# Altium integrated library Infineon_Power_Smart_Low-Side_&_High-Side_Switches.IntLib: 238 symbols (part 9 of 14)
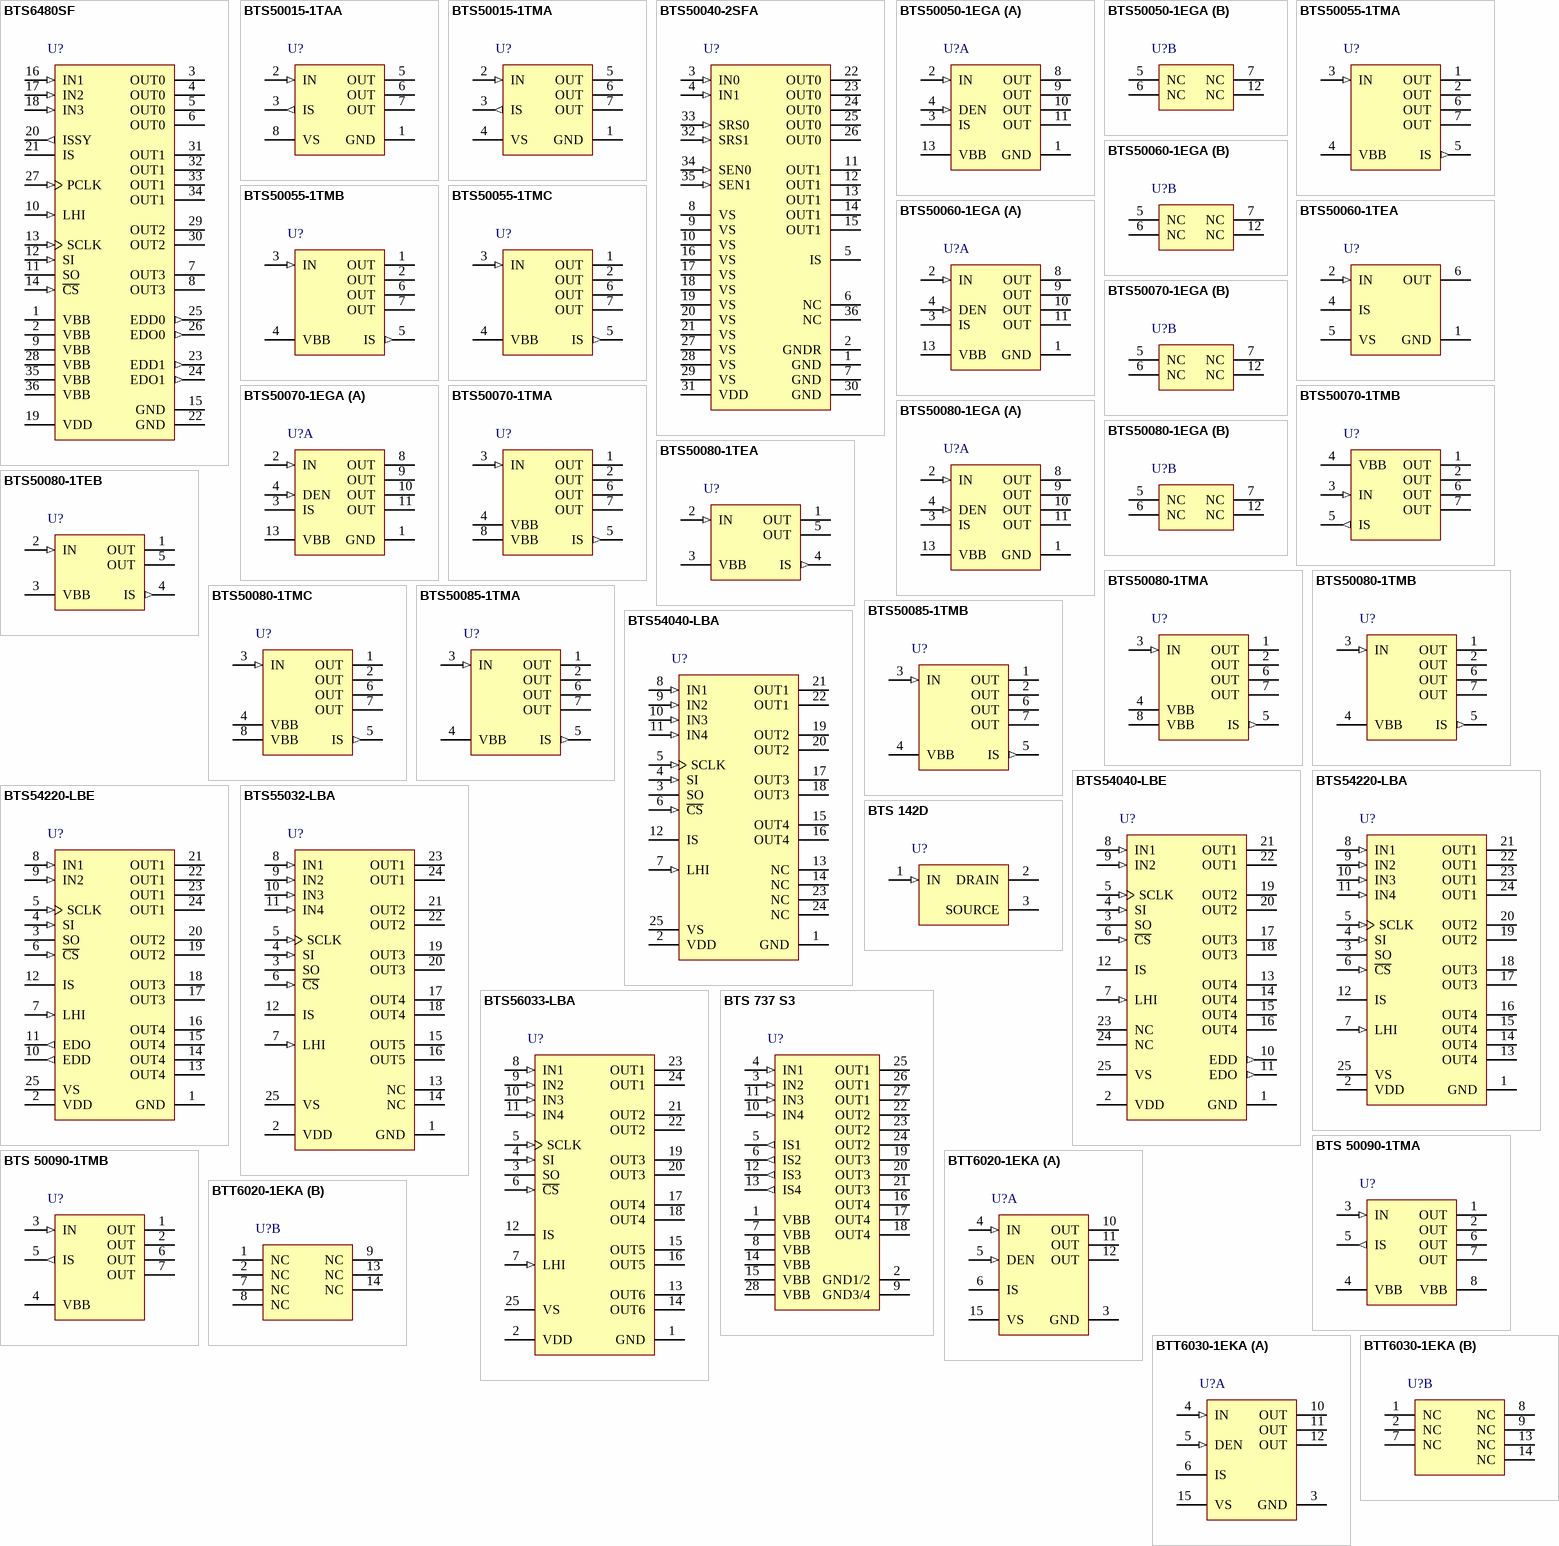
[diagram p15: symbols BTS6480SF to BTT6030-1EKA]

## BTS50085-1TMA
designator U?
Smart Highside High Current Power Switch, 1 Channel, 11.1 A Load Current, -40 to 150 degC, PG-TO220-7-4, Reel, Green; Manufacturer: Infineon; PartNumber: BTS50085-1TMA; Channels: 1; Green: TRUE; Group: Automotive Qualified; Load Current (typ): 11.1 A; Ptot (max): 170 W; Recommended Operating Voltage Max.: 58 V; Recommended Operating Voltage Min.: 5.5 V; RON @ 25degreesC: 9 mOhm; RON(max) @ 150degreesC: 17 mOhm; toff (max): 110 us; ton (max): 400 us; DatasheetVersion: Rev. 1.0; PackageVersion: Apr-10; PackageReference: PG-TO220-7-4; PackageDescription: 7-Pin Plastic (Green) Transistor Single Outline Package, 10 x 9.25 mm Body, 1.27 mm Pitch; Supplier 1: Mouser; Supplier Part Number 1: 726-BTS500851TMA; Supplier 2: Newark; Supplier Part Number 2: 47W3399; Supplier 3: Farnell; Supplier Part Number 3: 2215476; Supplier 4: Digi-Key; Supplier Part Number 4: BTS50085-1TMATR-ND; Supplier 5: Digi-Key; Supplier Part Number 5: BTS50085-1TMACT-ND; Supplier 6: Digi-Key; Supplier Part Number 6: BTS50085-1TMADKR-ND; Halogen-free: TRUE; Packing: Reel; Mounting Technology: Surface Mount; ComponentLink1Description: Manufacturer URL; ComponentLink1URL: http://www.infineon.com/; ComponentLink2Description: Datasheet; ComponentLink2URL: http://www.infineon.com/dgdl/BTS50085-1TMA_DS_v10.pdf?folderId=db3a304314dca389011537739e37155f&fileId=db3a3043183a955501186079aa3936b6&location=en.Products.Automotive_ICs.Smart_High-_and_Low-Side_Switches.PROFET__-_Smart_High_Side_Switches.DATASHEET.BTS50085-1TMA_DS_v10.pdf; ComponentLink3Description: Package Specification; ComponentLink3URL: http://www.infineon.com/dgdl/BTS50055-1TMA_DS_v11.pdf?folderId=db3a304314dca389011537739e37155f&fileId=db3a3043183a95550118607dca6c36c1&sId=db3a30433d68e984013d81e8892a7448
footprint INF-PG-TO220-7-4_N (DPAK, 7-Leads, Body 10x9.25mm, Pitch 1.27mm, IPC Medium Density)
footprint INF-PG-TO220-7-4_L (DPAK, 7-Leads, Body 10x9.25mm, Pitch 1.27mm, IPC High Density)
footprint INF-PG-TO220-7-4_M (DPAK, 7-Leads, Body 10x9.25mm, Pitch 1.27mm, IPC Low Density)
pins: 1 OUT (power) "Output to the load. The pins1,2,6 and 7 must be shorted with each other especially in high current applications!", 2 OUT (power) "Output to the load. The pins1,2,6 and 7 must be shorted with each other especially in high current applications!", 3 IN (in) "Input, activates the power switch in case of short to ground", 4 VBB (power) "Positive power supply voltage, the tab is electrically connected to this pin. In high current applications the tab should be used for the Vbb connection instead of this pin", 5 IS (out) "Diagnostic feedback providing a sense current proportional to the load current; zero current on failure (see Truth Table on page 7)", 6 OUT (power) "Output to the load. The pins1,2,6 and 7 must be shorted with each other especially in high current applications!", 7 OUT (power) "Output to the load. The pins1,2,6 and 7 must be shorted with each other especially in high current applications!"

## BTS50085-1TMB
designator U?
Smart Highside High Current Power Switch, 1 Channel, 44 A Load Current, -40 to 150 degC, PG-TO220-7-11, Tube, Green; Manufacturer: Infineon; PartNumber: BTS50085-1TMB; Channels: 1; Green: TRUE; Group: Automotive Qualified; Load Current (typ): 44 A; Packing: Reel; Ptot (max): 170 W; Recommended Operating Voltage Max.: 58 V; Recommended Operating Voltage Min.: 5 V; RON @ 25degreesC: 9 mOhm; RON(max) @ 150degreesC: 17 mOhm; toff (max): 110 us; ton (max): 400 us; DatasheetVersion: Rev. 1.0; PackageVersion: Jul-07; PackageReference: PG-TO220-7-11; PackageDescription: 7-Pin Plastic (Green) Transistor Single Outline Package, 10 x 9.25 mm Body, 1.27 mm Pitch; Supplier 1: Mouser; Supplier Part Number 1: 726-BTS500851TMB; Supplier 2: Newark; Supplier Part Number 2: 47W3400; Supplier 3: Farnell; Supplier Part Number 3: 2215515; Supplier 4: Digi-Key; Supplier Part Number 4: BTS50085-1TMB-ND; Halogen-free: TRUE; Mounting Technology: Through Hole; ComponentLink1Description: Manufacturer URL; ComponentLink1URL: http://www.infineon.com/; ComponentLink2Description: Datasheet; ComponentLink2URL: http://www.infineon.com/dgdl/BTS50085-1TMB_DS_v10.pdf?folderId=db3a304314dca389011537739e37155f&fileId=db3a3043183a95550118605d91523652&location=en.Products.Automotive_ICs.Smart_High-_and_Low-Side_Switches.PROFET__-_Smart_High_Side_Switches.DATASHEET.BTS50085-1TMB_DS_v10.pdf; ComponentLink3Description: Package Specification; ComponentLink3URL: http://www.infineon.com/dgdl/TLE5205-2_DS_11%5B1%5D.pdf?folderId=db3a30431b3e89eb011bb632994f065b&fileId=db3a30431f848401011fc747c7a0797f&sId=db3a30433d68e984013d7d43135b5b6a
footprint INF-PG-TO220-7-11 (FM, 7-Leads, Body 10x9.25mm, Pitch 1.27mm)
pins: 1 OUT (power) "Output to the load. The pins1,2,6 and 7 must be shorted with each other especially in high current applications!", 2 OUT (power) "Output to the load. The pins1,2,6 and 7 must be shorted with each other especially in high current applications!", 3 IN (in) "Input, activates the power switch in case of short to ground", 4 VBB (power) "Positive power supply voltage, the tab is electrically connected to this pin. In high current applications the tab should be used for the Vbb connection instead of this pin", 5 IS (out) "Diagnostic feedback providing a sense current proportional to the load current; zero current on failure (see Truth Table on page 7)", 6 OUT (power) "Output to the load. The pins1,2,6 and 7 must be shorted with each other especially in high current applications!", 7 OUT (power) "Output to the load. The pins1,2,6 and 7 must be shorted with each other especially in high current applications!"

## BTS54040-LBA
designator U?
SPI Power Controller, TSON-24, Reel, Green; Manufacturer: Infineon; PartNumber: BTS54040-LBA; Channel mix: 4*39mohm; Channels: 4; External drive capability: FLASE; Green: TRUE; DatasheetVersion: Rev. 1.0; PackageReference: TSON-24-3; PackageDescription: 24-Pin Plastic (Green) Thin Small Outline Non-Leaded Package, 9.5 x 6 mm Body, 0.65 mm Pitch; Halogen-free: TRUE; LED mode: TRUE; Packing: Reel; Mounting Technology: Surface Mount; ComponentLink1Description: Manufacturer URL; ComponentLink1URL: http://www.infineon.com/; ComponentLink2Description: Datasheet; ComponentLink2URL: http://www.infineon.com/dgdl/BTS54040LBA_DS10_2013-03-24.pdf?folderId=db3a30431400ef68011421b54e2e0564&fileId=db3a30433ea3aef6013ea72e84b304d2; ComponentLink3Description: Package Specification; ComponentLink3URL: http://www.infineon.com/dgdl/BTS56033LBA_DS10_2013-03-24.pdf?folderId=db3a30431400ef68011421b54e2e0564&fileId=db3a30433ea3aef6013ea7308c2a04d3
footprint INF-TSON-24-3_V (TSON, 24-Leads, Body 9.5x6mm, Pitch 0.65mm)
pins: 1 GND (power) "Ground connection", 2 VDD (power) "Logic supply (5 V)", 3 SO (hiz) "Serial output of SPI interface", 4 SI (in) "Serial input of SPI interface (“high” active)", 5 SCLK (in) "Serial clock of SPI interface (“high” active)", 6 ~{CS} (in) "Chip select of SPI interface (“low” active); Integrated pull up do VDD", 7 LHI (in) "Limp home activation signal ("high" active)", 8 IN1 (in) "Input signal of channel 1 ("high" active)", 9 IN2 (in) "Input signal of channel 2 ("high" active)", 10 IN3 (in) "Input signal of channel 3 ("high" active)", 11 IN4 (in) "Input signal of channel 4 ("high" active)", 12 IS (hiz) "Current sense output signal", 13 NC "Not connected, internally not bonded, shorted together", 14 NC "Not connected, internally not bonded, shorted together", 15 OUT4 (power) "Protected high-side power output of channel 4", 16 OUT4 (power) "Protected high-side power output of channel 4", 17 OUT3 (power) "Protected high-side power output of channel 3", 18 OUT3 (power) "Protected high-side power output of channel 3", 19 OUT2 (power) "Protected high-side power output of channel 2", 20 OUT2 (power) "Protected high-side power output of channel 2", 21 OUT1 (power) "Protected high-side power output of channel 1", 22 OUT1 (power) "Protected high-side power output of channel 1", 23 NC "Not connected, internally not bonded, shorted together", 24 NC "Not connected, internally not bonded, shorted together", 25 VS (power) "Positive power supply for high-side power switch"

## BTS54040-LBE
designator U?
SPI Power Controller, TSON-24, Reel, Green; Manufacturer: Infineon; PartNumber: BTS54040-LBE; Channel mix: 4*39mohm; Channels: 4; External drive capability: TRUE; DatasheetVersion: Rev. 1.0; PackageReference: TSON-24-3; PackageDescription: 24-Pin Plastic (Green) Thin Small Outline Non-Leaded Package, 9.5 x 6 mm Body, 0.65 mm Pitch; Green: TRUE; Halogen-free: TRUE; LED mode: TRUE; Packing: Reel; Mounting Technology: Surface Mount; ComponentLink1Description: Manufacturer URL; ComponentLink1URL: http://www.infineon.com/; ComponentLink2Description: Datasheet; ComponentLink2URL: http://www.infineon.com/dgdl/BTS54040LBE_DS10_2013-03-24.pdf?folderId=db3a30431400ef68011421b54e2e0564&fileId=db3a30433ea3aef6013ea731a44604d4; ComponentLink3Description: Package Specification; ComponentLink3URL: http://www.infineon.com/dgdl/BTS56033LBA_DS10_2013-03-24.pdf?folderId=db3a30431400ef68011421b54e2e0564&fileId=db3a30433ea3aef6013ea7308c2a04d3
footprint INF-TSON-24-3_V (TSON, 24-Leads, Body 9.5x6mm, Pitch 0.65mm)
pins: 1 GND (power) "Ground connection", 2 VDD (power) "Logic supply (5 V)", 3 SO (hiz) "Serial output of SPI interface", 4 SI (in) "Serial input of SPI interface (“high” active)", 5 SCLK (in) "Serial clock of SPI interface (“high” active)", 6 ~{CS} (in) "Chip select of SPI interface (“low” active); Integrated pull up do VDD", 7 LHI (in) "Limp home activation signal ("high" active)", 8 IN1 (in) "Input signal of channel 1 ("high" active)", 9 IN2 (in) "Input signal of channel 2 ("high" active)", 10 EDD (out) "External driver diagnosis enable signal for external driver", 11 EDO (out) "External driver output for activation for external driver", 12 IS (hiz) "Current sense output signal", 13 OUT4 (power) "Protected high-side power output of channel 4", 14 OUT4 (power) "Protected high-side power output of channel 4", 15 OUT4 (power) "Protected high-side power output of channel 4", 16 OUT4 (power) "Protected high-side power output of channel 4", 17 OUT3 (power) "Protected high-side power output of channel 3", 18 OUT3 (power) "Protected high-side power output of channel 3", 19 OUT2 (power) "Protected high-side power output of channel 2", 20 OUT2 (power) "Protected high-side power output of channel 2", 21 OUT1 (power) "Protected high-side power output of channel 1", 22 OUT1 (power) "Protected high-side power output of channel 1", 23 NC "Not connected, internally not bonded, shorted together", 24 NC "Not connected, internally not bonded, shorted together", 25 VS (power) "Positive power supply for high-side power switch"

## BTS54220-LBA
designator U?
SPI Power Controller, TSON-24, Reel, Green; Manufacturer: Infineon; PartNumber: BTS54220-LBA; Channel mix: 2*9mohm+2*27mohm; Channels: 4; External drive capability: FLASE; Green: TRUE; DatasheetVersion: Rev. 1.0; PackageReference: TSON-24-3; PackageDescription: 24-Pin Plastic (Green) Thin Small Outline Non-Leaded Package, 9.5 x 6 mm Body, 0.65 mm Pitch; Halogen-free: TRUE; LED mode: TRUE; Packing: Reel; Mounting Technology: Surface Mount; ComponentLink1Description: Manufacturer URL; ComponentLink1URL: http://www.infineon.com/; ComponentLink2Description: Datasheet; ComponentLink2URL: http://www.infineon.com/dgdl/BTS54220LBA_DS10_2013-03-24.pdf?folderId=db3a30431400ef68011421b54e2e0564&fileId=db3a30433ea3aef6013ea72d251504d1; ComponentLink3Description: Package Specification; ComponentLink3URL: http://www.infineon.com/dgdl/BTS56033LBA_DS10_2013-03-24.pdf?folderId=db3a30431400ef68011421b54e2e0564&fileId=db3a30433ea3aef6013ea7308c2a04d3
footprint INF-TSON-24-3_V (TSON, 24-Leads, Body 9.5x6mm, Pitch 0.65mm)
pins: 1 GND (power) "Ground connection", 2 VDD (power) "Logic supply (5 V)", 3 SO (hiz) "Serial output of SPI interface", 4 SI (in) "Serial input of SPI interface (“high” active)", 5 SCLK (in) "Serial clock of SPI interface (“high” active)", 6 ~{CS} (in) "Chip select of SPI interface (“low” active); Integrated pull up do VDD", 7 LHI (in) "Limp home activation signal ("high" active)", 8 IN1 (in) "Input signal of channel 1 ("high" active)", 9 IN2 (in) "Input signal of channel 2 ("high" active)", 10 IN3 (in) "Input signal of channel 3 ("high" active)", 11 IN4 (in) "Input signal of channel 4 ("high" active)", 12 IS (hiz) "Current sense output signal", 13 OUT4 (power) "Protected high-side power output of channel 4", 14 OUT4 (power) "Protected high-side power output of channel 4", 15 OUT4 (power) "Protected high-side power output of channel 4", 16 OUT4 (power) "Protected high-side power output of channel 4", 17 OUT3 (power) "Protected high-side power output of channel 3", 18 OUT3 (power) "Protected high-side power output of channel 3", 19 OUT2 (power) "Protected high-side power output of channel 2", 20 OUT2 (power) "Protected high-side power output of channel 2", 21 OUT1 (power) "Protected high-side power output of channel 1", 22 OUT1 (power) "Protected high-side power output of channel 1", 23 OUT1 (power) "Protected high-side power output of channel 1", 24 OUT1 (power) "Protected high-side power output of channel 1", 25 VS (power) "Positive power supply for high-side power switch"

## BTS54220-LBE
designator U?
SPI Power Controller, TSON-24, Reel, Green; Manufacturer: Infineon; PartNumber: BTS54220-LBE; Channel mix: 2*9mohm+2*27mohm; Channels: 4; External drive capability: TRUE; DatasheetVersion: Rev. 1.0; PackageReference: TSON-24-3; PackageDescription: 24-Pin Plastic (Green) Thin Small Outline Non-Leaded Package, 9.5 x 6 mm Body, 0.65 mm Pitch; Green: TRUE; Halogen-free: TRUE; LED mode: TRUE; Packing: Reel; Mounting Technology: Surface Mount; ComponentLink1Description: Manufacturer URL; ComponentLink1URL: http://www.infineon.com/; ComponentLink2Description: Datasheet; ComponentLink2URL: http://www.infineon.com/dgdl/BTS54220LBE_DS10_2013-03-24.pdf?folderId=db3a30431400ef68011421b54e2e0564&fileId=db3a30433ea3aef6013ea72a0a5304ca; ComponentLink3Description: Package Specification; ComponentLink3URL: http://www.infineon.com/dgdl/BTS56033LBA_DS10_2013-03-24.pdf?folderId=db3a30431400ef68011421b54e2e0564&fileId=db3a30433ea3aef6013ea7308c2a04d3
footprint INF-TSON-24-3_V (TSON, 24-Leads, Body 9.5x6mm, Pitch 0.65mm)
pins: 1 GND (power) "Ground connection", 2 VDD (power) "Logic supply (5 V)", 3 SO (hiz) "Serial output of SPI interface", 4 SI (in) "Serial input of SPI interface (“high” active)", 5 SCLK (in) "Serial clock of SPI interface (“high” active)", 6 ~{CS} (in) "Chip select of SPI interface (“low” active); Integrated pull up do VDD", 7 LHI (in) "Limp home activation signal ("high" active)", 8 IN1 (in) "Input signal of channel 1 ("high" active)", 9 IN2 (in) "Input signal of channel 2 ("high" active)", 10 EDD (out) "External driver diagnosis enable signal for external driver", 11 EDO (out) "External driver output for activation for external driver", 12 IS (hiz) "Current sense output signal", 13 OUT4 (power) "Protected high-side power output of channel 4", 14 OUT4 (power) "Protected high-side power output of channel 4", 15 OUT4 (power) "Protected high-side power output of channel 4", 16 OUT4 (power) "Protected high-side power output of channel 4", 17 OUT3 (power) "Protected high-side power output of channel 3", 18 OUT3 (power) "Protected high-side power output of channel 3", 19 OUT2 (power) "Protected high-side power output of channel 2", 20 OUT2 (power) "Protected high-side power output of channel 2", 21 OUT1 (power) "Protected high-side power output of channel 1", 22 OUT1 (power) "Protected high-side power output of channel 1", 23 OUT1 (power) "Protected high-side power output of channel 1", 24 OUT1 (power) "Protected high-side power output of channel 1", 25 VS (power) "Positive power supply for high-side power switch"

## BTS55032-LBA
designator U?
SPI Power Controller, TSON-24, Reel, Green; Manufacturer: Infineon; PartNumber: BTS55032-LBA; Channel mix: 3*39mohm+2*110mohm; Channels: 5; External drive capability: FLASE; Green: TRUE; DatasheetVersion: Rev. 1.0; PackageReference: TSON-24-3; PackageDescription: 24-Pin Plastic (Green) Thin Small Outline Non-Leaded Package, 9.5 x 6 mm Body, 0.65 mm Pitch; Halogen-free: TRUE; LED mode: TRUE; Packing: Reel; Mounting Technology: Surface Mount; ComponentLink1Description: Manufacturer URL; ComponentLink1URL: http://www.infineon.com/; ComponentLink2Description: Datasheet; ComponentLink2URL: http://www.infineon.com/dgdl/BTS55032LBA_DS10_2013-03-24.pdf?folderId=db3a30431400ef68011421b54e2e0564&fileId=db3a30433ea3aef6013ea72b97ca04cb; ComponentLink3Description: Package Specification; ComponentLink3URL: http://www.infineon.com/dgdl/BTS56033LBA_DS10_2013-03-24.pdf?folderId=db3a30431400ef68011421b54e2e0564&fileId=db3a30433ea3aef6013ea7308c2a04d3
footprint INF-TSON-24-3_V (TSON, 24-Leads, Body 9.5x6mm, Pitch 0.65mm)
pins: 1 GND (power) "Ground connection", 2 VDD (power) "Logic supply (5 V)", 3 SO (hiz) "Serial output of SPI interface", 4 SI (in) "Serial input of SPI interface (“high” active)", 5 SCLK (in) "Serial clock of SPI interface (“high” active)", 6 ~{CS} (in) "Chip select of SPI interface (“low” active); Integrated pull up do VDD", 7 LHI (in) "Limp home activation signal ("high" active)", 8 IN1 (in) "Input signal of channel 1 ("high" active)", 9 IN2 (in) "Input signal of channel 2 ("high" active)", 10 IN3 (in) "Input signal of channel 3 ("high" active)", 11 IN4 (in) "Input signal of channel 4 ("high" active)", 12 IS (hiz) "Current sense output signal", 13 NC "Not connected, internally not bonded, shorted together", 14 NC "Not connected, internally not bonded, shorted together", 15 OUT5 (power) "Protected high-side power output of channel 5", 16 OUT5 (power) "Protected high-side power output of channel 5", 17 OUT4 (power) "Protected high-side power output of channel 4", 18 OUT4 (power) "Protected high-side power output of channel 4", 19 OUT3 (power) "Protected high-side power output of channel 3", 20 OUT3 (power) "Protected high-side power output of channel 3", 21 OUT2 (power) "Protected high-side power output of channel 2", 22 OUT2 (power) "Protected high-side power output of channel 2", 23 OUT1 (power) "Protected high-side power output of channel 1", 24 OUT1 (power) "Protected high-side power output of channel 1", 25 VS (power) "Positive power supply for high-side power switch"

## BTS56033-LBA
designator U?
SPI Power Controller, TSON-24, Reel, Green; Manufacturer: Infineon; PartNumber: BTS56033-LBA; Channel mix: 3*39mohm+3*110mohm; Channels: 6; External drive capability: FLASE; Green: TRUE; DatasheetVersion: Rev. 1.0; PackageReference: TSON-24-3; PackageDescription: 24-Pin Plastic (Green) Thin Small Outline Non-Leaded Package, 9.5 x 6 mm Body, 0.65 mm Pitch; Halogen-free: TRUE; LED mode: TRUE; Packing: Reel; Mounting Technology: Surface Mount; ComponentLink1Description: Manufacturer URL; ComponentLink1URL: http://www.infineon.com/; ComponentLink2Description: Datasheet; ComponentLink2URL: http://www.infineon.com/dgdl/BTS56033LBA_DS10_2013-03-24.pdf?folderId=db3a30431400ef68011421b54e2e0564&fileId=db3a30433ea3aef6013ea7308c2a04d3; ComponentLink3Description: Package Specification; ComponentLink3URL: http://www.infineon.com/dgdl/BTS56033LBA_DS10_2013-03-24.pdf?folderId=db3a30431400ef68011421b54e2e0564&fileId=db3a30433ea3aef6013ea7308c2a04d3
footprint INF-TSON-24-3_V (TSON, 24-Leads, Body 9.5x6mm, Pitch 0.65mm)
pins: 1 GND (power) "Ground connection", 2 VDD (power) "Logic supply (5 V)", 3 SO (hiz) "Serial output of SPI interface", 4 SI (in) "Serial input of SPI interface (“high” active)", 5 SCLK (in) "Serial clock of SPI interface (“high” active)", 6 ~{CS} (in) "Chip select of SPI interface (“low” active); Integrated pull up do VDD", 7 LHI (in) "Limp home activation signal ("high" active)", 8 IN1 (in) "Input signal of channel 1 ("high" active)", 9 IN2 (in) "Input signal of channel 2 ("high" active)", 10 IN3 (in) "Input signal of channel 3 ("high" active)", 11 IN4 (in) "Input signal of channel 4 ("high" active)", 12 IS (hiz) "Current sense output signal", 13 OUT6 (power) "Protected high-side power output of channel 6", 14 OUT6 (power) "Protected high-side power output of channel 6", 15 OUT5 (power) "Protected high-side power output of channel 5", 16 OUT5 (power) "Protected high-side power output of channel 5", 17 OUT4 (power) "Protected high-side power output of channel 4", 18 OUT4 (power) "Protected high-side power output of channel 4", 19 OUT3 (power) "Protected high-side power output of channel 3", 20 OUT3 (power) "Protected high-side power output of channel 3", 21 OUT2 (power) "Protected high-side power output of channel 2", 22 OUT2 (power) "Protected high-side power output of channel 2", 23 OUT1 (power) "Protected high-side power output of channel 1", 24 OUT1 (power) "Protected high-side power output of channel 1", 25 VS (power) "Positive power supply for high-side power switch"

## BTS 142D
designator U?
Smart Low-Side Power Switch Power HITFET, 42 V VDS, 4.6 A ID, -40 to 150 degC, PG-TO252-3-11, Reel, Green; Manufacturer: Infineon; PartNumber: BTS 142D; Channels: 1; Green: TRUE; ID: 4.6 A; ID(lim) (min): 30 A; Ptot (max): 59 W; RDS (on)(max): 30 mOhm; ton (max): 100 us; toff (max): 170 us; VDS (max): 42 V; DatasheetVersion: Rev. 1.3; PackageVersion: Dec-06; PackageReference: PG-TO252-3-11; PackageDescription: 3-Pin Plastic (Green) Transistor Single Outline Package, 6.5 x 6.12 mm Body, 2.28 mm Pitch; Group: HITFET; Halogen-free: FALSE; ID(nom): 4.6 A; Packing: Reel; Mounting Technology: Surface Mount; ComponentLink1Description: Manufacturer URL; ComponentLink1URL: http://www.infineon.com/; ComponentLink2Description: Datasheet; ComponentLink2URL: http://www.infineon.com/dgdl/BTS142_DS_13.pdf?folderId=db3a3043163797a6011667aa084c0e01&fileId=db3a3043163797a6011667ac98be0e02&location=en.Products.Automotive_ICs.Smart_High-_and_Low-Side_Switches.HITFET___TEMPFET__-_Smart_Low-Side_Switches.DATASHEET.BTS142_DS_13.pdf; ComponentLink3Description: Package Specification; ComponentLink3URL: http://www.infineon.com/dgdl/BTS142_DS_13.pdf?folderId=db3a3043163797a6011667aa084c0e01&fileId=db3a3043163797a6011667ac98be0e02&location=en.Products.Automotive_ICs.Smart_High-_and_Low-Side_Switches.HITFET___TEMPFET__-_Smart_Low-Side_Switches.DATASHEET.BTS142_DS_13.pdf
footprint INF-PG-TO252-3-11_N (DPAK, 3-Leads, Body 6.5x6.12mm, Pitch 2.28mm, IPC Medium Density)
footprint INF-PG-TO252-3-11_L (DPAK, 3-Leads, Body 6.5x6.12mm, Pitch 2.28mm, IPC High Density)
footprint INF-PG-TO252-3-11_M (DPAK, 3-Leads, Body 6.5x6.12mm, Pitch 2.28mm, IPC Low Density)
pins: 1 IN (in), 2 DRAIN (power), 3 SOURCE (power)

## BTS 737 S3
designator U?
Smart High-Side Power Switch, 4 Channels, 5.4 A Load Current, -40 to 150 degC, P-DSO-28-16, Reel; Manufacturer: Infineon; PartNumber: BTS 737 S3; Channels: 4; Green: FALSE; Group: Automotive Qualified; Load Current (typ): 5.4 A; Ptot (max): 3.7 W; Recommended Operating Voltage Max.: 40 V; Recommended Operating Voltage Min.: 5 V; RON @ 25degreesC: 35 mOhm; RON(max) @ 150degreesC: 70 mOhm; toff (max): 250 us; ton (max): 150 us; PackageVersion: Feb-04; PackageReference: P-DSO-28-16; PackageDescription: 28-Pin Plastic Dual Small Outline Package, 17.9 x 7.5 mm Body, 1.27 mm Pitch; Halogen-free: FALSE; Packing: Reel; Mounting Technology: Surface Mount; ComponentLink1Description: Manufacturer URL; ComponentLink1URL: http://www.infineon.com/; ComponentLink2Description: Datasheet; ComponentLink2URL: http://www.infineon.com/dgdl/BTS737S3_20040219.pdf?folderId=db3a304412b407950112b428d0c13e86&fileId=db3a304412b407950112b428d12c3e87&location=en.Products.Automotive_ICs.Smart_High-_and_Low-Side_Switches.PROFET__-_Smart_High_Side_Switches.DATASHEET.BTS737S3_20040219.pdf; ComponentLink3Description: Package Specification; ComponentLink3URL: http://www.infineon.com/dgdl/BTS737S3_20040219.pdf?folderId=db3a304412b407950112b428d0c13e86&fileId=db3a304412b407950112b428d12c3e87&sId=db3a30433d68e984013d857a17970df6
footprint INF-P-DSO-28-16_N (SOP, 28-Leads, Body 17.9x7.5mm, Pitch 1.27mm, IPC Medium Density)
footprint INF-P-DSO-28-16_L (SOP, 28-Leads, Body 17.9x7.5mm, Pitch 1.27mm, IPC High Density)
footprint INF-P-DSO-28-16_M (SOP, 28-Leads, Body 17.9x7.5mm, Pitch 1.27mm, IPC Low Density)
pins: 1 VBB (power) "Positive power supply voltage. Design the wiring for the simultaneous max. short circuit currents from channel 1 to 4 and also for low thermal resistance", 2 GND1/2 (power) "Ground of chip 1 (channel 1,2)", 3 IN2 (in) "Input 1,2, 3,4 activates channel 1,2,3,4 in case of logic high signal", 4 IN1 (in) "Input 1,2, 3,4 activates channel 1,2,3,4 in case of logic high signal", 5 IS1 (out) "Diagnostic feedback 1 .. 4 of channel 1 to 4 Providing a sense current, proportional to the load current", 6 IS2 (out) "Diagnostic feedback 1 .. 4 of channel 1 to 4 Providing a sense current, proportional to the load current", 7 VBB (power) "Positive power supply voltage. Design the wiring for the simultaneous max. short circuit currents from channel 1 to 4 and also for low thermal resistance", 8 VBB (power) "Positive power supply voltage. Design the wiring for the simultaneous max. short circuit currents from channel 1 to 4 and also for low thermal resistance", 9 GND3/4 (power) "Ground of chip 2 (channel 3,4)", 10 IN4 (in) "Input 1,2, 3,4 activates channel 1,2,3,4 in case of logic high signal", 11 IN3 (in) "Input 1,2, 3,4 activates channel 1,2,3,4 in case of logic high signal", 12 IS3 (out) "Diagnostic feedback 1 .. 4 of channel 1 to 4 Providing a sense current, proportional to the load current", 13 IS4 (out) "Diagnostic feedback 1 .. 4 of channel 1 to 4 Providing a sense current, proportional to the load current", 14 VBB (power) "Positive power supply voltage. Design the wiring for the simultaneous max. short circuit currents from channel 1 to 4 and also for low thermal resistance", 15 VBB (power) "Positive power supply voltage. Design the wiring for the simultaneous max. short circuit currents from channel 1 to 4 and also for low thermal resistance", 16 OUT4 (power) "Output 1,2,3,4 protected high-side power output of channel 1,23,4. Design the wiring for the max. short circuit current", 17 OUT4 (power) "Output 1,2,3,4 protected high-side power output of channel 1,23,4. Design the wiring for the max. short circuit current", 18 OUT4 (power) "Output 1,2,3,4 protected high-side power output of channel 1,23,4. Design the wiring for the max. short circuit current", 19 OUT3 (power) "Output 1,2,3,4 protected high-side power output of channel 1,23,4. Design the wiring for the max. short circuit current", 20 OUT3 (power) "Output 1,2,3,4 protected high-side power output of channel 1,23,4. Design the wiring for the max. short circuit current", 21 OUT3 (power) "Output 1,2,3,4 protected high-side power output of channel 1,23,4. Design the wiring for the max. short circuit current", 22 OUT2 (power) "Output 1,2,3,4 protected high-side power output of channel 1,23,4. Design the wiring for the max. short circuit current", 23 OUT2 (power) "Output 1,2,3,4 protected high-side power output of channel 1,23,4. Design the wiring for the max. short circuit current", 24 OUT2 (power) "Output 1,2,3,4 protected high-side power output of channel 1,23,4. Design the wiring for the max. short circuit current", 25 OUT1 (power) "Output 1,2,3,4 protected high-side power output of channel 1,23,4. Design the wiring for the max. short circuit current", 26 OUT1 (power) "Output 1,2,3,4 protected high-side power output of channel 1,23,4. Design the wiring for the max. short circuit current", 27 OUT1 (power) "Output 1,2,3,4 protected high-side power output of channel 1,23,4. Design the wiring for the max. short circuit current", 28 VBB (power) "Positive power supply voltage. Design the wiring for the simultaneous max. short circuit currents from channel 1 to 4 and also for low thermal resistance"

## BTS 50090-1TMA
designator U?
Smart High-Side Power Switch PROFET One Channel, -40 to 150 degC, PG-TO220-7-4, Reel, Green; Manufacturer: Infineon; PartNumber: BTS 50090-1TMA; Green: TRUE; DatasheetVersion: Rev. 1.0; PackageVersion: Apr-10; PackageReference: PG-TO220-7-4; PackageDescription: 7-Pin Plastic (Green) Transistor Single Outline Package, 10 x 9.25 mm Body, 1.27 mm Pitch; Halogen-free: FALSE; Packing: Reel; Mounting Technology: Surface Mount; ComponentLink1Description: Manufacturer URL; ComponentLink1URL: http://www.infineon.com/; ComponentLink2Description: Datasheet; ComponentLink2URL: http://www.infineon.com/dgdl/BTS50090-1TMA_DS_v10.pdf?folderId=db3a304314dca389011537739e37155f&fileId=db3a30431be39b97011c1da5653377cf&location=en.Products.Automotive_ICs.Smart_High-_and_Low-Side_Switches.PROFET__-_Smart_High_Side_Switches.DATASHEET.BTS50090-1TMA_DS_v10.pdf; ComponentLink3Description: Package Specification; ComponentLink3URL: http://www.infineon.com/dgdl/BTS50055-1TMA_DS_v11.pdf?folderId=db3a304314dca389011537739e37155f&fileId=db3a3043183a95550118607dca6c36c1&sId=db3a30433d68e984013d81e8892a7448
footprint INF-PG-TO220-7-4_N (DPAK, 7-Leads, Body 10x9.25mm, Pitch 1.27mm, IPC Medium Density)
footprint INF-PG-TO220-7-4_L (DPAK, 7-Leads, Body 10x9.25mm, Pitch 1.27mm, IPC High Density)
footprint INF-PG-TO220-7-4_M (DPAK, 7-Leads, Body 10x9.25mm, Pitch 1.27mm, IPC Low Density)
pins: 1 OUT (power) "Output; output to the load; pin 1, 2, 6 and 7 must be externally shorted.", 2 OUT (power) "Output; output to the load; pin 1, 2, 6 and 7 must be externally shorted.", 3 IN (in) "Input; activates the power switch if shorted to ground.", 4 VBB (power) "Supply Voltage; positive power supply voltage; tab and pin 4 are internally shorted.", 5 IS (out) "Sense Output; Diagnostic feedback; provides at normal operation a sense current proportional to the load current; in case of overload, overtemperature and/or short circuit a defined current is provided", 6 OUT (power) "Output; output to the load; pin 1, 2, 6 and 7 must be externally shorted.", 7 OUT (power) "Output; output to the load; pin 1, 2, 6 and 7 must be externally shorted.", 8 VBB (power) "Supply Voltage; positive power supply voltage; tab and pin 4 are internally shorted."

## BTS 50090-1TMB
designator U?
Smart High-Side Power Switch PROFET One Channel, -40 to 150 degC, PG-TO220-7-12, Tube, Green; Manufacturer: Infineon; PartNumber: BTS 50090-1TMB; Green: TRUE; DatasheetVersion: Rev. 1.0; PackageVersion: Jul-07; PackageReference: PG-TO220-7-12; PackageDescription: 7-Pin Plastic (Green) Transistor Single Outline Package, 10 x 9.25 mm Body, 1.27 mm Pitch; Halogen-free: FALSE; Packing: Tube; Mounting Technology: Through Hole; ComponentLink1Description: Manufacturer URL; ComponentLink1URL: http://www.infineon.com/; ComponentLink2Description: Datasheet; ComponentLink2URL: http://www.infineon.com/dgdl/BTS50090-1TMB_DS_v10.pdf?folderId=db3a304314dca389011537739e37155f&fileId=db3a30431be39b97011c1da8909077e2&location=en.Products.Automotive_ICs.Smart_High-_and_Low-Side_Switches.PROFET__-_Smart_High_Side_Switches.DATASHEET.BTS50090-1TMB_DS_v10.pdf; ComponentLink3Description: Package Specification; ComponentLink3URL: http://www.infineon.com/dgdl/TLE5205-2_DS_11%5B1%5D.pdf?folderId=db3a30431b3e89eb011bb632994f065b&fileId=db3a30431f848401011fc747c7a0797f&sId=db3a30433d68e984013d7d43135b5b6a
footprint INF-PG-TO220-7-12 (FM, 7-Leads, Body 10x4.4mm, Pitch 1.27mm)
pins: 1 OUT (power) "Output; output to the load; pin 1, 2, 6 and 7 must be externally shorted.", 2 OUT (power) "Output; output to the load; pin 1, 2, 6 and 7 must be externally shorted.", 3 IN (in) "Input; activates the power switch if shorted to ground.", 4 VBB (power) "Supply Voltage; positive power supply voltage; tab and pin 4 are internally shorted.", 5 IS (out) "Sense Output; Diagnostic feedback; provides at normal operation a sense current proportional to the load current; in case of overload, overtemperature and/or short circuit a defined current is provided", 6 OUT (power) "Output; output to the load; pin 1, 2, 6 and 7 must be externally shorted.", 7 OUT (power) "Output; output to the load; pin 1, 2, 6 and 7 must be externally shorted."

## BTT6020-1EKA
designator U?
Smart High-Side Power Switch, 5 V to 36 V, -40 to 150 degC, PG-DSO-14, Reel, Green; Manufacturer: Infineon; PartNumber: BTT6020-1EKA; Channels: 1; Diagnostic: Sense; Green: TRUE; IL (nom)min - all channels active: 7 A; IL (SCp): 70 A; Ptot (max): 1.6 W; Recommended Operating Voltage Max.: 36 V; Recommended Operating Voltage Min.: 5 V; toff (max): 150 us; DatasheetVersion: Rev. 1.0; PackageVersion: Apr-12; PackageReference: PG-DSO-14-47 EP; PackageDescription: 14-Pin Plastic (Green) Dual Small Outline Package, 8.65 x 3.9 mm Body, 1.27 mm Pitch; Supplier 1: Mouser; Supplier Part Number 1: N/A; Halogen-free: TRUE; IL (nom)min - one channel active: 7 A; IL(SC): 70 A; Load Current (typ): 7 A; Mounting: SMD; Packing: Reel; ton (max): 150 us; Mounting Technology: Surface Mount; Code_JEDEC: MS-012; ComponentLink1Description: Manufacturer URL; ComponentLink1URL: http://www.infineon.com/; ComponentLink2Description: Datasheet; ComponentLink2URL: http://www.infineon.com/dgdl/BTT6020-1EKA-Datasheet-10-Infineon.pdf?folderId=db3a304317a748360117eee5521349bb&fileId=db3a3043405f29780140626558a02806; ComponentLink3Description: Package Specification; ComponentLink3URL: http://www.infineon.com/cms/packages/SMD_-_Surface_Mounted_Devices/P-PG-DSO/P-PG-DSO-14-33x_-40x_-43.html?__locale=en
footprint INF-PG-DSO-14-47 EP_N (SOP, 14-Leads, Body 8.65x3.9mm, Pitch 1.27mm, Thermal Pad 6.5x2.75mm, IPC Medium Density)
footprint INF-PG-DSO-14-47 EP_L (SOP, 14-Leads, Body 8.65x3.9mm, Pitch 1.27mm, Thermal Pad 6.5x2.75mm, IPC High Density)
footprint INF-PG-DSO-14-47 EP_M (SOP, 14-Leads, Body 8.65x3.9mm, Pitch 1.27mm, Thermal Pad 6.5x2.75mm, IPC Low Density)
part A pins: 3 GND (power) "GrouND; Ground connection", 4 IN (in) "INput channel; Input signal for channel activation", 5 DEN (in) "Diagnostic ENable; Digital signal to enable/disable the diagnosis of the device", 6 IS (hiz) "Sense; Sense current of the selected channel", 10 OUT (power) "OUTput; Protected high side power output channel", 11 OUT (power) "OUTput; Protected high side power output channel", 12 OUT (power) "OUTput; Protected high side power output channel", 15 VS (power) "Voltage Supply; Battery voltage"
part B pins: 1 NC "Not Connected; No internal connection to the chip", 2 NC "Not Connected; No internal connection to the chip", 7 NC "Not Connected; No internal connection to the chip", 8 NC "Not Connected; No internal connection to the chip", 9 NC "Not Connected; No internal connection to the chip", 13 NC "Not Connected; No internal connection to the chip", 14 NC "Not Connected; No internal connection to the chip"

## BTT6030-1EKA
designator U?
Smart High-Side Power Switch, 5 to 36 V, -40 to 150 degC, PG-DSO-14, Reel, Green; Manufacturer: Infineon; PartNumber: BTT6030-1EKA; Channels: 1; Diagnostic: Sense; Green: TRUE; IL (nom)min - all channels active: 6 A; IL (SCp): 60 A; Ptot (max): 1.6 W; Recommended Operating Voltage Max.: 36 V; Recommended Operating Voltage Min.: 5 V; toff (max): 150 us; DatasheetVersion: Rev. 1.0; PackageVersion: Apr-12; PackageReference: PG-DSO-14-47 EP; PackageDescription: 14-Pin Plastic (Green) Dual Small Outline Package, 8.65 x 3.9 mm Body, 1.27 mm Pitch; Supplier 1: Mouser; Supplier Part Number 1: N/A; Halogen-free: TRUE; IL (nom)min - one channel active: 6 A; IL(SC): 60 A; Load Current (typ): 6 A; Mounting: SMD; Packing: Reel; ton (max): 150 us; Mounting Technology: Surface Mount; Code_JEDEC: MS-012; ComponentLink1Description: Manufacturer URL; ComponentLink1URL: http://www.infineon.com/; ComponentLink2Description: Datasheet; ComponentLink2URL: http://www.infineon.com/dgdl/BTT6030-1EKA-Datasheet-10-Infineon.pdf?folderId=db3a304317a748360117eee5521349bb&fileId=db3a3043405f297801406268c1ac2807; ComponentLink3Description: Package Specification; ComponentLink3URL: http://www.infineon.com/cms/packages/SMD_-_Surface_Mounted_Devices/P-PG-DSO/P-PG-DSO-14-33x_-40x_-43.html?__locale=en
footprint INF-PG-DSO-14-47 EP_N (SOP, 14-Leads, Body 8.65x3.9mm, Pitch 1.27mm, Thermal Pad 6.5x2.75mm, IPC Medium Density)
footprint INF-PG-DSO-14-47 EP_L (SOP, 14-Leads, Body 8.65x3.9mm, Pitch 1.27mm, Thermal Pad 6.5x2.75mm, IPC High Density)
footprint INF-PG-DSO-14-47 EP_M (SOP, 14-Leads, Body 8.65x3.9mm, Pitch 1.27mm, Thermal Pad 6.5x2.75mm, IPC Low Density)
part A pins: 3 GND (power) "GrounD; Ground connection", 4 IN (in) "INput channel; Input signal for channel activation", 5 DEN (in) "Diagnostic ENable; Digital signal to enable/disable the diagnosis of the device", 6 IS (hiz) "Sense; Sense current of the selected channel", 10 OUT (power) "OUTput; Protected high side power output channel", 11 OUT (power) "OUTput; Protected high side power output channel", 12 OUT (power) "OUTput; Protected high side power output channel", 15 VS (power) "Voltage Supply; Battery voltage"
part B pins: 1 NC "Not Connected; No internal connection to the chip", 2 NC "Not Connected; No internal connection to the chip", 7 NC "Not Connected; No internal connection to the chip", 8 NC "Not Connected; No internal connection to the chip", 9 NC "Not Connected; No internal connection to the chip", 13 NC "Not Connected; No internal connection to the chip", 14 NC "Not Connected; No internal connection to the chip"

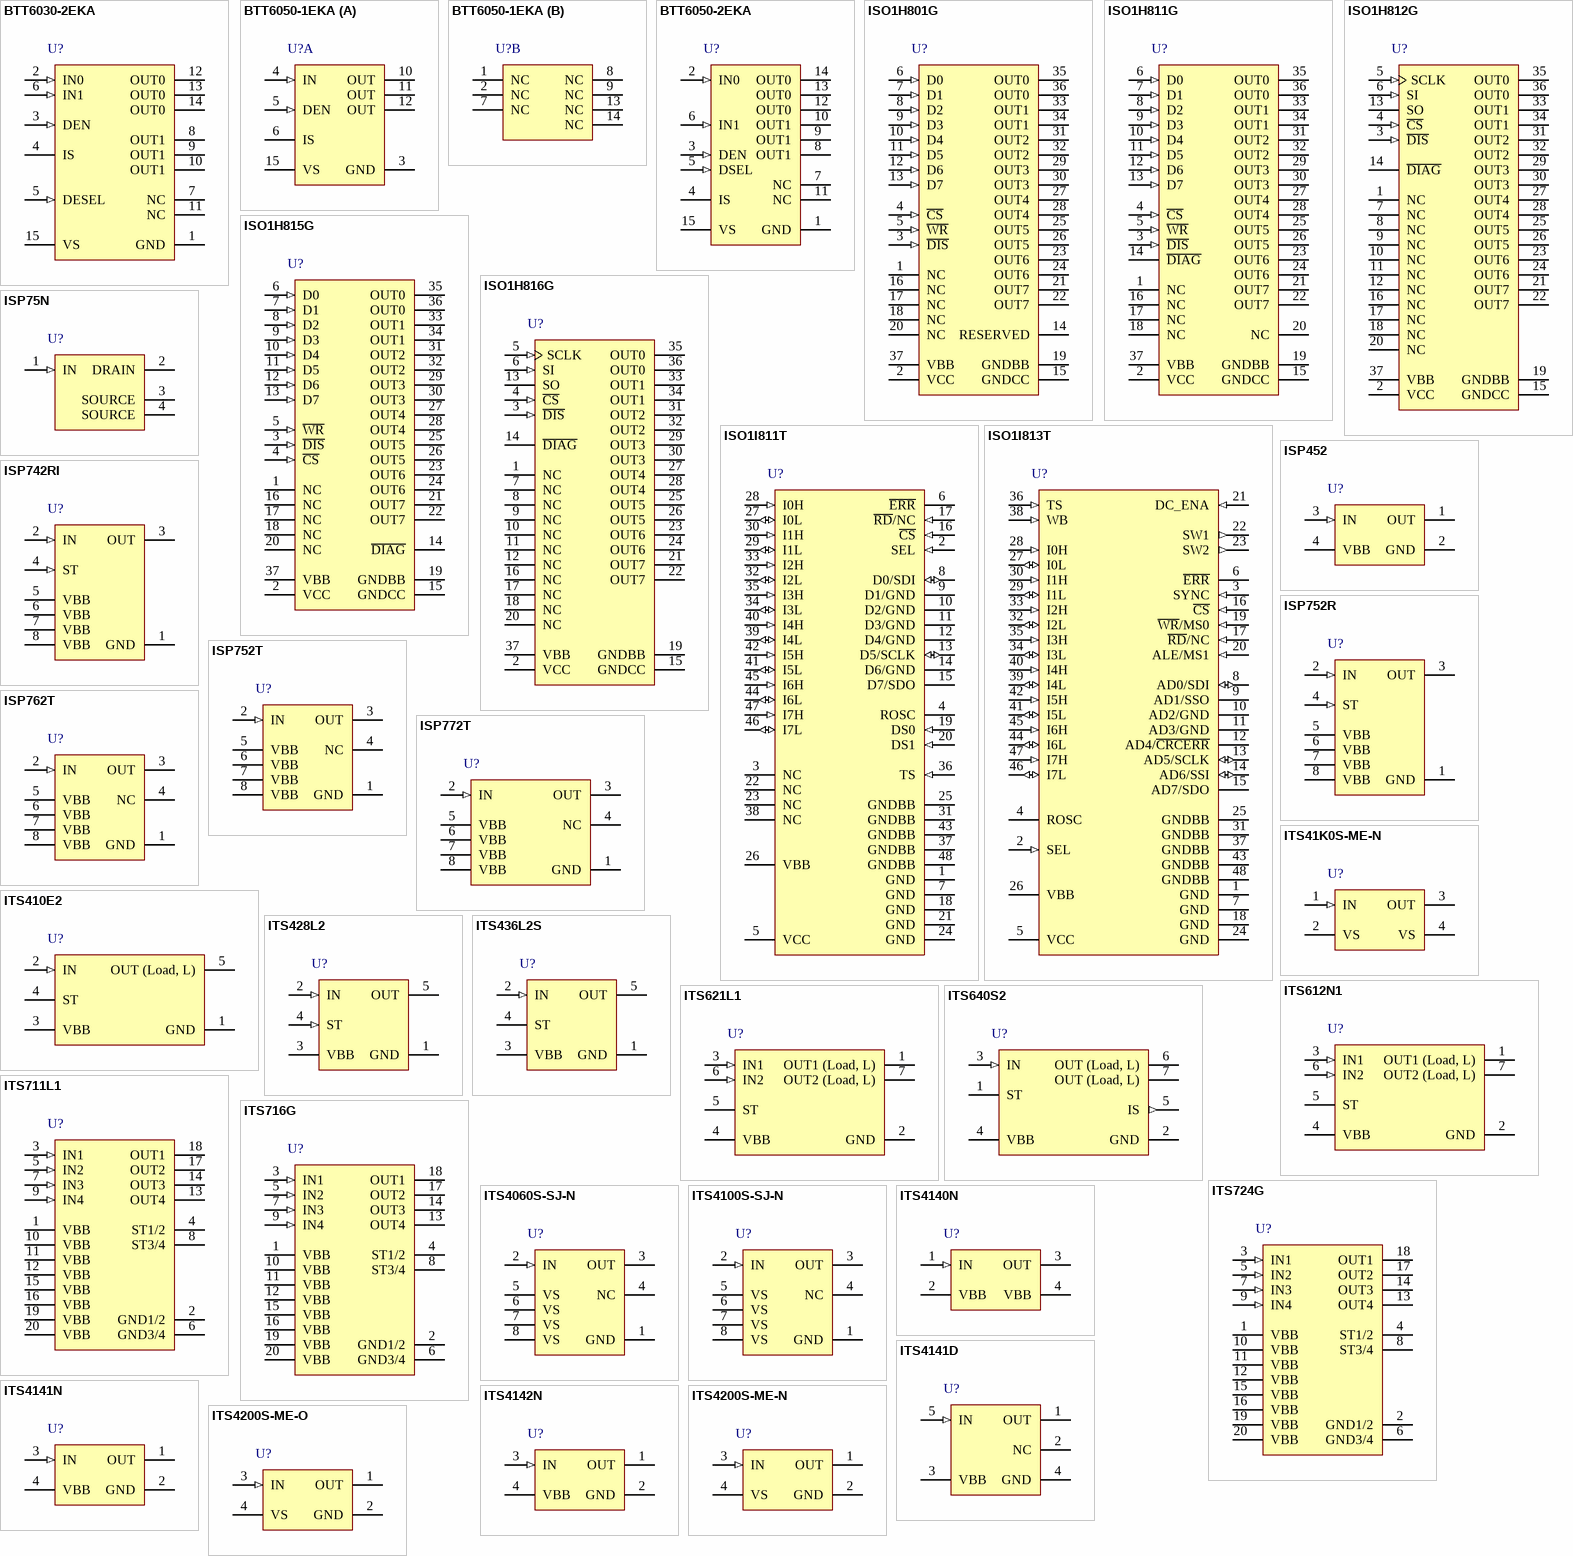
[diagram p5: symbols BTT6030-2EKA to ITS4200S-ME-O]

## BTT6030-2EKA
designator U?
Smart High-Side Power Switch Dual Channel, 32 mohm, 5 to 36 V, -40 to 150 degC, PG-DSO-14, Reel, Green; Manufacturer: Infineon; PartNumber: BTT6030-2EKA; Channels: 2; Diagnostic: Sense; Green: TRUE; IL (nom)min - all channels active: 4 A; IL (nom)min - one channel active: 6 A; IL (SCp): 56 A; Ptot (max): 2 W; Recommended Operating Voltage Max.: 36 V; Recommended Operating Voltage Min.: 5 V; toff (max): 150 us; DatasheetVersion: Rev. 1.0; PackageVersion: Sep-11; PackageReference: PG-DSO-14-40; PackageDescription: 14-Pin Plastic (Green) Dual Small Outline Package, 8.65 x 3.9 mm Body, 1.27 mm Pitch; Supplier 1: Mouser; Supplier Part Number 1: N/A; Halogen-free: TRUE; IL(SC): 56 A; Load Current (typ): 6 A; Mounting: SMD; Packing: Reel; ton (max): 150 us; Mounting Technology: Surface Mount; Code_JEDEC: MS-012; ComponentLink1Description: Manufacturer URL; ComponentLink1URL: http://www.infineon.com/; ComponentLink2Description: Datasheet; ComponentLink2URL: http://www.infineon.com/dgdl/BTT6030-2EKA_Data-Sheet-10-Infineon.pdf?folderId=db3a304317a748360117eee5521349bb&fileId=db3a3043414fd3ef01415e8da0081a8d; ComponentLink3Description: Package Specification; ComponentLink3URL: http://www.infineon.com/dgdl/BTS5030-2EKA_Data-Sheet_21.pdf?folderId=db3a30431400ef68011421b54e2e0564&fileId=db3a30432a14dd54012a3c882d7f5994&sId=db3a30433d68e984013d83e34cd77b82
footprint INF-PG-DSO-14-40_N (SOP, 14-Leads, Body 8.65x3.9mm, Pitch 1.27mm, Thermal Pad 6.5x2.75mm, IPC Medium Density)
footprint INF-PG-DSO-14-40_L (SOP, 14-Leads, Body 8.65x3.9mm, Pitch 1.27mm, Thermal Pad 6.5x2.75mm, IPC High Density)
footprint INF-PG-DSO-14-40_M (SOP, 14-Leads, Body 8.65x3.9mm, Pitch 1.27mm, Thermal Pad 6.5x2.6mm, IPC Low Density)
pins: 1 GND (power) "GrounD; Ground connection", 2 IN0 (in) "INput channel 0; Input signal for channel 0 activation", 3 DEN (in) "Diagnostic ENable; Digital signal to enable/disable the diagnosis of the device", 4 IS (hiz) "Sense; Sense current of the selected channel", 5 DESEL (in) "Diagnostic Selection; Digital signal to select the channel to be diagnosed", 6 IN1 (in) "INput channel 1; Input signal for channel 1 activation", 7 NC "Not Connected; No internal connection to the chip", 8 OUT1 (power) "OUTput 1; Protected high side power output channel 1", 9 OUT1 (power) "OUTput 1; Protected high side power output channel 1", 10 OUT1 (power) "OUTput 1; Protected high side power output channel 1", 11 NC "Not Connected; No internal connection to the chip", 12 OUT0 (power) "OUTput 0; Protected high side power output channel 0", 13 OUT0 (power) "OUTput 0; Protected high side power output channel 0", 14 OUT0 (power) "OUTput 0; Protected high side power output channel 0", 15 VS (power) "Voltage Supply; Battery voltage"

## BTT6050-1EKA
designator U?
Smart High-Side Power Switch, 5 to 36 V, -40 to 150 degC, PG-DSO-14, Reel, Green; Manufacturer: Infineon; PartNumber: BTT6050-1EKA; Channels: 1; Diagnostic: Sense; Green: TRUE; IL (nom)min - all channels active: 4.5 A; IL (SCp): 38 A; Ptot (max): 1.6 W; Recommended Operating Voltage Max.: 36 V; Recommended Operating Voltage Min.: 5 V; toff (max): 150 us; DatasheetVersion: Rev. 1.0; PackageVersion: Apr-12; PackageReference: PG-DSO-14-47 EP; PackageDescription: 14-Pin Plastic (Green) Dual Small Outline Package, 8.65 x 3.9 mm Body, 1.27 mm Pitch; Supplier 1: Mouser; Supplier Part Number 1: N/A; Halogen-free: TRUE; IL (nom)min - one channel active: 4.5 A; IL(SC): 38 A; Load Current (typ): 4.5 A; Mounting: SMD; Packing: Reel; ton (max): 150 us; Mounting Technology: Surface Mount; Code_JEDEC: MS-012; ComponentLink1Description: Manufacturer URL; ComponentLink1URL: http://www.infineon.com/; ComponentLink2Description: Datasheet; ComponentLink2URL: http://www.infineon.com/dgdl/BTT6050-1EKA-Datasheet-10-Infineon.pdf?folderId=db3a304317a748360117eee5521349bb&fileId=db3a3043405f2978014062709829283b; ComponentLink3Description: Package Specification; ComponentLink3URL: http://www.infineon.com/cms/packages/SMD_-_Surface_Mounted_Devices/P-PG-DSO/P-PG-DSO-14-33x_-40x_-43.html?__locale=en
footprint INF-PG-DSO-14-47 EP_N (SOP, 14-Leads, Body 8.65x3.9mm, Pitch 1.27mm, Thermal Pad 6.5x2.75mm, IPC Medium Density)
footprint INF-PG-DSO-14-47 EP_L (SOP, 14-Leads, Body 8.65x3.9mm, Pitch 1.27mm, Thermal Pad 6.5x2.75mm, IPC High Density)
footprint INF-PG-DSO-14-47 EP_M (SOP, 14-Leads, Body 8.65x3.9mm, Pitch 1.27mm, Thermal Pad 6.5x2.75mm, IPC Low Density)
part A pins: 3 GND (power) "GrouND; Ground connection", 4 IN (in) "INput channel; Input signal for channel activation", 5 DEN (in) "Diagnostic ENable; Digital signal to enable/disable the diagnosis of the device", 6 IS (hiz) "Sense; Sense current of the selected channel", 10 OUT (power) "OUTput; Protected high side power output channel", 11 OUT (power) "OUTput; Protected high side power output channel", 12 OUT (power) "OUTput; Protected high side power output channel", 15 VS (power) "Voltage Supply; Battery voltage"
part B pins: 1 NC "Not Connected; No internal connection to the chip", 2 NC "Not Connected; No internal connection to the chip", 7 NC "Not Connected; No internal connection to the chip", 8 NC "Not Connected; No internal connection to the chip", 9 NC "Not Connected; No internal connection to the chip", 13 NC "Not Connected; No internal connection to the chip", 14 NC "Not Connected; No internal connection to the chip"

## BTT6050-2EKA
designator U?
Smart High-Side Power Switch, 50 mOhm, 2 Channels, 3 A Load Current, -40 to 150 degC, PG-DSO-14-40, Reel, Green; Manufacturer: Infineon; PartNumber: BTT6050-2EKA; Channels: 2; Green: TRUE; Group: Automotive Qualified; Load Current (typ): 3 A; Ptot (max): 2.1 mW; Recommended Operating Voltage Max.: 36 V; Recommended Operating Voltage Min.: 5 V; RON @ 25degreesC: 50 mOhm; RON(max) @ 150degreesC: 100 mOhm; toff (max): 150 us; DatasheetVersion: Rev. 1.0; PackageVersion: Sep-11; PackageReference: PG-DSO-14-40; PackageDescription: 14-Pin Plastic (Green) Dual Small Outline Package, 8.65 x 3.9 mm Body, 1.27 mm Pitch; Halogen-free: TRUE; Packing: Reel; ton (max): 150 us; Mounting Technology: Surface Mount; Code_JEDEC: MS-012; ComponentLink1Description: Manufacturer URL; ComponentLink1URL: http://www.infineon.com/; ComponentLink2Description: Datasheet; ComponentLink2URL: http://www.infineon.com/dgdl/BTT6050-2EKA-Data-Sheet-10-Infineon.pdf?folderId=db3a304317a748360117eee5521349bb&fileId=db3a3043372d5cc8013774fc63f60a3a&location=en.Products.Automotive_ICs.Smart_High-_and_Low-Side_Switches.PROFET__-_Smart_High_Side_Switches.DATASHEET.BTT6050-2EKA-Data-Sheet-10-Infineon.pdf; ComponentLink3Description: Package Specification; ComponentLink3URL: http://www.infineon.com/dgdl/BTS5030-2EKA_Data-Sheet_21.pdf?folderId=db3a30431400ef68011421b54e2e0564&fileId=db3a30432a14dd54012a3c882d7f5994&sId=db3a30433d68e984013d83e34cd77b82
footprint INF-PG-DSO-14-40_N (SOP, 14-Leads, Body 8.65x3.9mm, Pitch 1.27mm, Thermal Pad 6.5x2.75mm, IPC Medium Density)
footprint INF-PG-DSO-14-40_L (SOP, 14-Leads, Body 8.65x3.9mm, Pitch 1.27mm, Thermal Pad 6.5x2.75mm, IPC High Density)
footprint INF-PG-DSO-14-40_M (SOP, 14-Leads, Body 8.65x3.9mm, Pitch 1.27mm, Thermal Pad 6.5x2.6mm, IPC Low Density)
pins: 1 GND (power) "GrouND; Ground connection", 2 IN0 (in) "INput channel 0; Input signal for channel 0 activation", 3 DEN (in) "Diagnostic ENable; Digital signal to enable/disable the diagnosis of the device", 4 IS (hiz) "Sense; Sense current of the selected channel", 5 DSEL (in) "Diagnostic SELection; Digital signal to select the channel to be diagnosed", 6 IN1 (in) "INput channel 1; Input signal for channel 1 activation", 7 NC "Not Connected; No internal connection to the chip", 8 OUT1 (power) "OUTput 1; Protected high side power output channel 1", 9 OUT1 (power) "OUTput 1; Protected high side power output channel 1", 10 OUT1 (power) "OUTput 1; Protected high side power output channel 1", 11 NC "Not Connected; No internal connection to the chip", 12 OUT0 (power) "OUTput 0; Protected high side power output channel 0", 13 OUT0 (power) "OUTput 0; Protected high side power output channel 0", 14 OUT0 (power) "OUTput 0; Protected high side power output channel 0", 15 VS (power) "Voltage Supply; Battery voltage"

## ISO1H801G
designator U?
Coreless Transformer Isolated Digital Output 8 Channel 0.625 A High-Side Switch, -50 to 150 degC, PG-DSO-36-10, Reel, Green; Manufacturer: Infineon; PartNumber: ISO1H801G; Green: TRUE; DatasheetVersion: Rev. 2.3; PackageVersion: Rev. 2.0, 07/2007; PackageReference: PG-DSO-36-10; PackageDescription: 36-Pin Plastic (Green) Dual Small Outline Package, 15.9 x 11 mm, Pitch 0.65 mm; Supplier 1: Digi-Key; Supplier Part Number 1: ISO1H801GTR-ND; Supplier 2: Digi-Key; Supplier Part Number 2: ISO1H801GCT-ND; Supplier 3: Digi-Key; Supplier Part Number 3: ISO1H801GDKR-ND; Halogen-free: TRUE; Packing: Reel; Mounting Technology: Surface Mount; Code_JEDEC: J-STD-020; ComponentLink1Description: Manufacturer URL; ComponentLink1URL: http://www.infineon.com/; ComponentLink2Description: Datasheet; ComponentLink2URL: http://www.infineon.com/dgdl/Final_Datasheet_ISO1H801_V23_sept.pdf?folderId=db3a30431b3e89eb011b8dbc543010a5&fileId=db3a30431b3e89eb011b8dc2d55810ac; ComponentLink3Description: Package Specification; ComponentLink3URL: http://www.infineon.com/dgdl/TLE6280GP_DS_V20.pdf?folderId=db3a3043156fd5730116144c5d101c30&fileId=db3a304318f3fe290118f4abcb910003&sId=db3a30433e0d3017013e13ebcf6d0de4
footprint INF-PG-DSO-36-10_N (SOP, 36-Leads, Body 15.9x11mm, Pitch 0.65mm, Thermal Pad 15.84x6mm, IPC Medium Density)
footprint INF-PG-DSO-36-10_L (SOP, 36-Leads, Body 15.9x11mm, Pitch 0.65mm, Thermal Pad 15.84x6mm, IPC High Density)
footprint INF-PG-DSO-36-10_M (SOP, 36-Leads, Body 15.9x11mm, Pitch 0.65mm, Thermal Pad 15.84x6mm, IPC Low Density)
pins: 1 NC "Not connected", 2 VCC (power) "Positive 5V logic supply", 3 ~{DIS} (in) "Output disable", 4 ~{CS} (in) "Chip select", 5 ~{WR} (in) "Parallel write", 6 D0 (in) "Data input bit0", 7 D1 (in) "Data input bit1", 8 D2 (in) "Data input bit2", 9 D3 (in) "Data input bit3", 10 D4 (in) "Data input bit4", 11 D5 (in) "Data input bit5", 12 D6 (in) "Data input bit6", 13 D7 (in) "Data input bit7", 14 RESERVED, 15 GNDCC (power) "Input logic ground", 16 NC "Not connected", 17 NC "Not connected", 18 NC "Not connected", 19 GNDBB (power) "Output driver ground", 20 NC "Not connected", 21 OUT7 (power) "High-side output of channel 7", 22 OUT7 (power) "High-side output of channel 7", 23 OUT6 (power) "High-side output of channel 6", 24 OUT6 (power) "High-side output of channel 6", 25 OUT5 (power) "High-side output of channel 5", 26 OUT5 (power) "High-side output of channel 5", 27 OUT4 (power) "High-side output of channel 4", 28 OUT4 (power) "High-side output of channel 4", 29 OUT3 (power) "High-side output of channel 3", 30 OUT3 (power) "High-side output of channel 3", 31 OUT2 (power) "High-side output of channel 2", 32 OUT2 (power) "High-side output of channel 2", 33 OUT1 (power) "High-side output of channel 1", 34 OUT1 (power) "High-side output of channel 1", 35 OUT0 (power) "High-side output of channel 0", 36 OUT0 (power) "High-side output of channel 0", 37 VBB (power) "Positive driver power supply voltage"